# Altium schematic symbol library IM03DGR.SchLib: 1 symbol
Pins are listed as number, name and electrical type; pins without a type are passive.

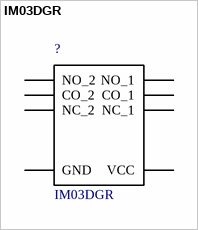
[diagram p0: symbol IM03DGR]

## IM03DGR
designator ?
Relay, Signal, Dpdt, 250vac, 220vdc, 5a; MF: TE Connectivity; Package: None; Price: 2.90 USD; Availability: Bad; MP: IM03DGR; Value: *
footprint GULLWINGS
pins: 1 VCC (power), 2 NC_1, 3 CO_1, 4 NO_1, 5 NO_2, 6 CO_2, 7 NC_2, 8 GND (power)